# EAGLE library part 66200821022 (library Wire_to_Board_Connectors_rev15d)
WR-MPC3 3.00mm Male Dual Row Angled Header with Plastic Pegs, 8 Pins=>Code : Con_WTB-MPC3_2_PCB_THT66200821022 <http://katalog.we-online.de/media/thumbs2/eican/thb_Con_WTB-MPC3_2_PCB_THT86220xx21022_pf2.jpg> Details see: http://katalog.we-online.de/en/em/662_0xx_210_22 Created 2014-06-06, Karrer Zheng 2014 (C) Würth Elektronik
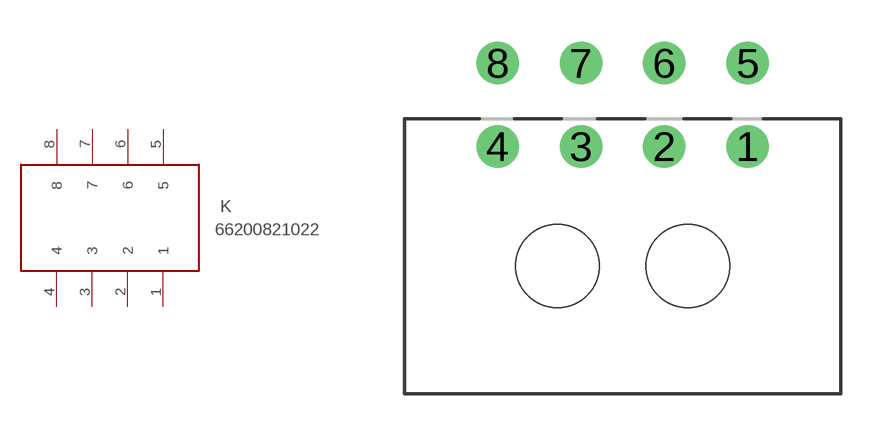
[diagram p338: symbol with the pads of 66200821022; footprint 66200821022]

Designator prefix K

## 66200821022  [66200821022]
1  1
2  2
3  3
4  4
5  5
6  6
7  7
8  8

## Footprint 66200821022 (pad centres in mm)
WR-MPC3 3.00mm Male Dual Row Angled Header with Plastic Pegs, 8 Pins
drill 1.02: 1 4.5,4.3; 2 1.5,4.3; 3 -1.5,4.3; 4 -4.5,4.3; 5 4.5,7.3; 6 1.5,7.3; 7 -1.5,7.3; 8 -4.5,7.3
hole 3 at 2.35,0
hole 3 at -2.35,0